# Altium footprint library APTD1608LSECKJ3-PF.PcbLib: 3 footprints
Each footprint in its own frame and in the unit in brackets; x right, y up, seen from the top. Pads: shape width x height; smd on the part's side, far side on the other; paste and mask are expansions set on the pad; w line width, h text height; cw(c..) or ccw(c..) is an arc to the next point about the centre after c.
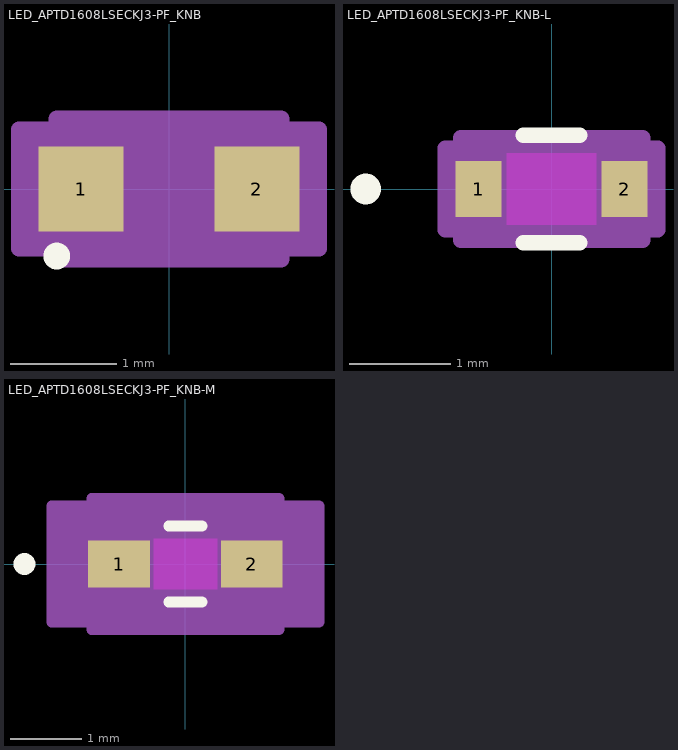
[diagram p0: the footprints below, top view; thin cyan lines are the x and y axes]

## LED_APTD1608LSECKJ3-PF_KNB [mm]
pads (2):
  rect 0.8x0.8 smd paste+0 mask+0: 1(-0.826,0) 2(0.826,0)
Top Overlay:
  circle w0.2: c-1.055,-0.63 r0.025
Mechanical 13:
  lines w0.025: -0.8,-0.406 -0.8,0.406 0.8,0.406 0.8,-0.406 -0.8,-0.406 ; -0.8,-0.305 -0.8,0.305 -0.8,-0.305 ; 0.8,-0.305 0.8,0.305 0.8,-0.305
Mechanical 15:
  region: -1.054,-0.559 -1.41,-0.559 -1.41,0.559 -1.054,0.559 -1.054,0.66 1.054,0.66 1.054,0.559 1.41,0.559 1.41,-0.559 1.054,-0.559 1.054,-0.66 -1.054,-0.66
  lines w0.152: -1.41,-0.559 -1.054,-0.559 -1.054,-0.66 1.054,-0.66 1.054,-0.559 1.41,-0.559 1.41,0.559 1.054,0.559 1.054,0.66 -1.054,0.66 -1.054,0.559 -1.41,0.559 -1.41,-0.559
3D body "LED_APTD1608LSECKJ3-PF_KNB.step": height 0.94, standoff 0, extent -0.8,-0.406 0.8,0.406

## LED_APTD1608LSECKJ3-PF_KNB-L [mil]
pads (2):
  rect 18x22 smd paste+0 mask+0: 1(-28.5,0) 2(28.5,0)
Top Layer keep-out:
  region: -17.5,-14 -17.5,14 17.5,14 17.5,-14
Top Overlay:
  circle w6: c-72.5,0 r3
  lines w6: -11.04,-21 11.04,-21 ; -11.04,21 11.04,21
Keep-Out Layer:
  region: -17.5,-14 -17.5,14 17.5,14 17.5,-14
Mechanical 13:
  circle w0: c-28.5,0 r3
  lines w1: -31.5,-12 -31.5,12 ; -31.5,-12 -31.5,12 ; -31.5,-12 -31.5,-12 ; -31.5,12 -31.5,12 ; 31.5,-12 31.5,12 ; 31.5,-12 31.5,-12 ; 31.5,-12 31.5,12 ; 31.5,12 31.5,12 ; -31.5,-16 31.5,-16 31.5,16 -31.5,16 -31.5,-16
Mechanical 15:
  region: -35.5,-16 -41.5,-16 -41.5,16 -35.5,16 -35.5,20 35.5,20 35.5,16 41.5,16 41.5,-16 35.5,-16 35.5,-20 -35.5,-20
  lines w6: -41.5,-16 -41.5,16 -35.5,16 -35.5,20 35.5,20 35.5,16 41.5,16 41.5,-16 35.5,-16 35.5,-20 -35.5,-20 -35.5,-16 -41.5,-16
3D body "LED_APTD1608LSECKJ3-PF_KNB.step": height 37.09, standoff 0, extent -31.5,-15.98 31.5,15.98

## LED_APTD1608LSECKJ3-PF_KNB-M [mil]
pads (2):
  rect 34x26 smd paste+0 mask+0: 1(-36.5,0) 2(36.5,0)
Top Layer keep-out:
  region: -17.5,-14 -17.5,14 17.5,14 17.5,-14
Top Overlay:
  circle w6: c-88.5,0 r3
  lines w6: -9.13,-21 9.13,-21 ; -9.13,21 9.13,21
Keep-Out Layer:
  region: -17.5,-14 -17.5,14 17.5,14 17.5,-14
Mechanical 13:
  circle w0: c-36.5,0 r3
  lines w1: -31.5,-12 -31.5,12 ; -31.5,-12 -31.5,12 ; -31.5,-12 -31.5,-12 ; -31.5,12 -31.5,12 ; 31.5,-12 31.5,12 ; 31.5,-12 31.5,-12 ; 31.5,-12 31.5,12 ; 31.5,12 31.5,12 ; -31.5,-16 31.5,-16 31.5,16 -31.5,16 -31.5,-16
Mechanical 15:
  region: -51.5,-32 -73.5,-32 -73.5,32 -51.5,32 -51.5,36 51.5,36 51.5,32 73.5,32 73.5,-32 51.5,-32 51.5,-36 -51.5,-36
  lines w6: -73.5,-32 -73.5,32 -51.5,32 -51.5,36 51.5,36 51.5,32 73.5,32 73.5,-32 51.5,-32 51.5,-36 -51.5,-36 -51.5,-32 -73.5,-32
3D body "LED_APTD1608LSECKJ3-PF_KNB.step": height 37.09, standoff 0, extent -31.5,-15.98 31.5,15.98